# Altium integrated library IRF9640STRLPbF.IntLib: 1 symbol
Pins are listed as number, name and electrical type; pins without a type are passive.

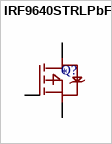
[diagram p0: symbol IRF9640STRLPbF]

## IRF9640STRLPbF
designator Q?  (value not drawn)
MOSFETs. -55C~+150C 1 P-Channel 1.2nF 125W 200V 370pF 44nC@10V 4V 500mohm@10V 6.8A 81pF P-Channel TO-263(D2PAK) MOSFETs ROHS; Manufacturer: Vishay Intertech; Component Type: Transistors; Design Item ID: IRF9640STRLPbF; Value: *; JLCPCB Part #: C2629; Manufacturer Part Number: IRF9640STRLPbF
footprint IRF9640STRLPbF (TO-263-2_L10.0-W9.1-P5.08-LS15.2-TL)
pins: 1 G, 3 S, 4 D